# Altium footprint library PCB - POWER INDUCTORS - WURTH WE-HCL 1830 H9.0MM.PCBLIB: 1 footprints
Each footprint in its own frame and in the unit in brackets; x right, y up, seen from the top. Pads: shape width x height; smd on the part's side, far side on the other; paste and mask are expansions set on the pad; w line width, h text height; cw(c..) or ccw(c..) is an arc to the next point about the centre after c.
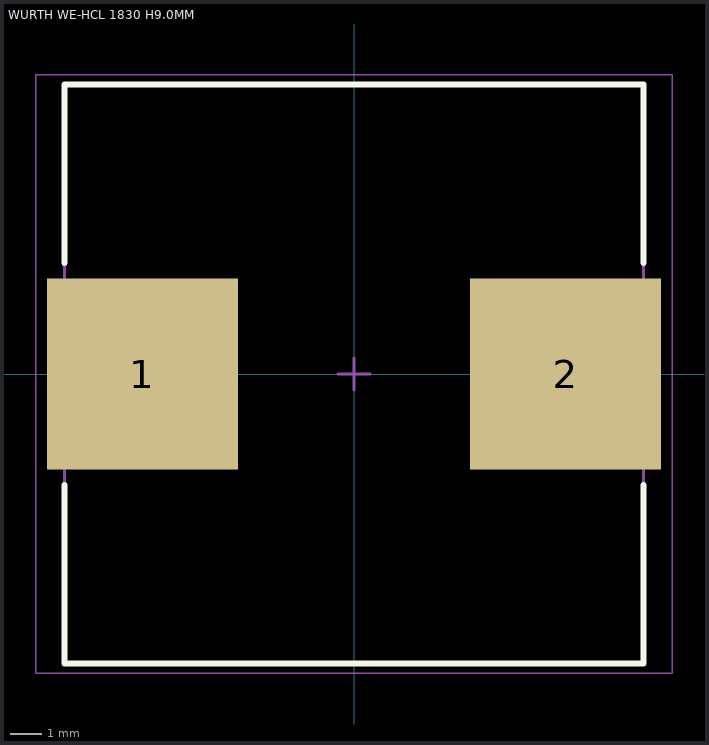
[diagram p0: the footprint, top view; thin cyan lines are the x and y axes]

## WURTH WE-HCL 1830 H9.0MM [mm]
height 8.9
pads (2):
  rect 6x6 smd: 1(-6.65,0) 2(6.65,0)
Top Overlay:
  lines w0.2: -9.1,-3.5 -9.1,-9.1 9.1,-9.1 9.1,-3.5 ; -9.1,3.5 -9.1,9.1 9.1,9.1 9.1,3.5
Mechanical 13:
  lines w0.1: -9.1,-9.1 -9.1,9.1 9.1,9.1 9.1,-9.1 -9.1,-9.1
Mechanical 15:
  lines w0.05: -10,-9.4 -10,9.4 10,9.4 10,-9.4 -10,-9.4
  lines w0.1: -0.5,0 0.5,0 ; 0,-0.5 0,0.5
3D body "WURTH WE-HCI-1890-8.9mmH.step": height 8.9, standoff 0, extent -9.15,-9.1 9.15,9.1